# EAGLE library part MAX31865 (library SENSOR)
IC RTD TO DIGITAL CONVERT 20TQFN Temp Monitoring System (Sensor) External Sensor SPI Output 20-TQFN-EP (5x5) Datasheet <http://datasheets.maximintegrated.com/en/ds/MAX31865.pdf> DigiKey <https://www.digikey.com/product-detail/en/maxim-integrated/MAX31865ATP-T/MAX31865ATP-TCT-ND/5051493>
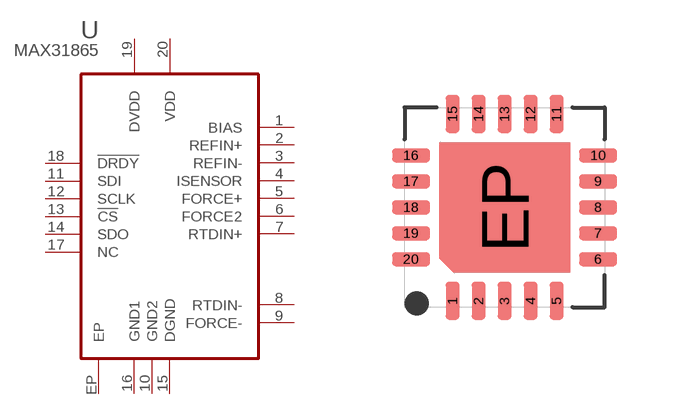
[diagram p8: symbol with the pads of QFN20P65_5X5; footprint QFN20P65_5X5]

Designator prefix U

## MAX31865ATP+ (ACC: ±0.5°C; DATASHEET: https://goo.gl/dg8VAU; DESC: IC RTD TO DIGITAL CONVERT 20TQFN; MANF: Maxim Integrated; MFPN: MAX31865ATP+T; STATUS: Active; TEMP: -40°C ~ 125°C; VSUP: 3v~3.6V)  [QFN20P65_5X5]
1  BIAS  pas
2  REFIN+  in
3  REFIN-  in
4  ISENSOR  pas
5  FORCE+  pas
6  FORCE2  in
7  RTDIN+  in
8  RTDIN-  in
9  FORCE-  pas
10  GND2  pwr
11  SDI  in
12  SCLK  in
13  !CS!  in
14  SDO  out
15  DGND  pwr
16  GND1  pwr
17  NC  nc
18  !DRDY!  out
19  DVDD  pwr
20  VDD  pwr
EP  EP  pwr

## Footprint QFN20P65_5X5 (pad centres in mm)
Quad Flat No-Lead (QFN with Tab), 0.65 mm pitch; square, 5 pin X 5 pin, 5.00 mm L X 5.00 mm W X 0.80 mm H body Outline: 21-0140 <https://pdfserv.maximintegrated.com/land_patterns/90-0010.PDF> Maxim Package T2055+5 <https://pdfserv.maximintegrated.com/package_dwgs/21-0140.PDF> PCB Libraries Packages
smd 0.35 x 0.95: 1 -1.3,-2.34; 2 -0.65,-2.34; 3 0,-2.34; 4 0.65,-2.34; 5 1.3,-2.34; 11 1.3,2.34; 12 0.65,2.34; 13 0,2.34; 14 -0.65,2.34; 15 -1.3,2.34
smd 0.95 x 0.35: 6 2.34,-1.3; 7 2.34,-0.65; 8 2.34,0; 9 2.34,0.65; 10 2.34,1.3; 16 -2.34,1.3; 17 -2.34,0.65; 18 -2.34,0; 19 -2.34,-0.65; 20 -2.34,-1.3
smd 2.55 x 2.55: EP 0,0